# Altium schematic symbol library WCAP-ATG8_50V.SchLib: 7 symbols
Pins are listed as number, name and electrical type; pins without a type are passive.

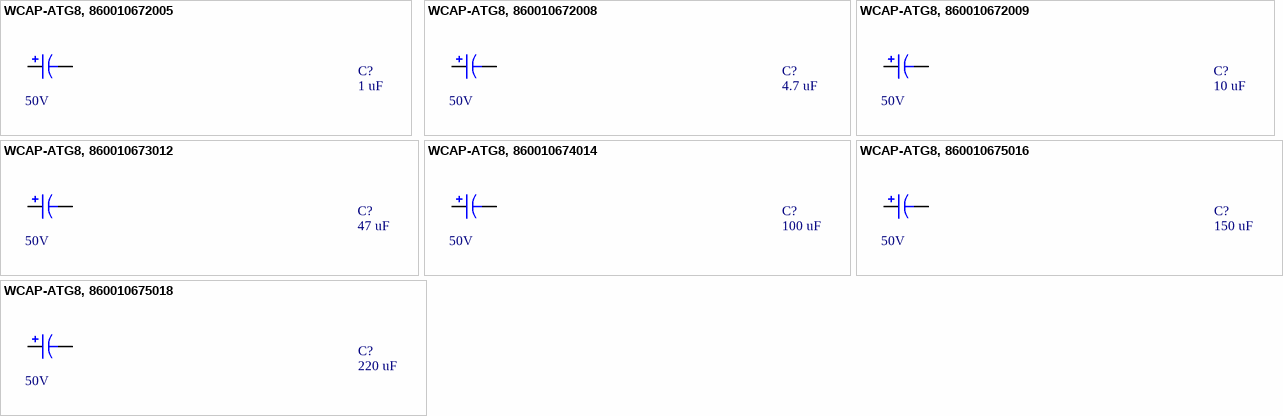
[diagram p0: symbols WCAP-ATG8, 860010672005 to WCAP-ATG8, 860010675018]

## WCAP-ATG8, 860010672005
designator C?, comment 1 uF  RatedVoltage: 50V
CAP Alu 1 UF 20% 50 V; Manufacturer: Wurth Elektronik; Manufacturer Part Number: 860010672005; PublishedDate: July 2016; ComponentLink1Description: Manufacturer; ComponentLink1URL: http://www.we-online.de; ComponentLink2Description: Datasheet; ComponentLink2URL: http://katalog.we-online.de/pbs/datasheet/860010672005.pdf; Value: 1 uF; Size: 5mmx11mm
footprint WCAP-ATG8_5x11x2x0.5
pins: 1, 2

## WCAP-ATG8, 860010672008
designator C?, comment 4.7 uF  RatedVoltage: 50V
CAP Alu 4.7 UF 20% 50 V; Manufacturer: Wurth Elektronik; Manufacturer Part Number: 860010672008; PublishedDate: July 2016; ComponentLink1Description: Manufacturer; ComponentLink1URL: http://www.we-online.de; ComponentLink2Description: Datasheet; ComponentLink2URL: http://katalog.we-online.de/pbs/datasheet/860010672008.pdf; Value: 4.7 uF; Size: 5mmx11mm
footprint WCAP-ATG8_5x11x2x0.5
pins: 1, 2

## WCAP-ATG8, 860010672009
designator C?, comment 10 uF  RatedVoltage: 50V
CAP Alu 10 UF 20% 50 V; Manufacturer: Wurth Elektronik; Manufacturer Part Number: 860010672009; PublishedDate: July 2016; ComponentLink1Description: Manufacturer; ComponentLink1URL: http://www.we-online.de; ComponentLink2Description: Datasheet; ComponentLink2URL: http://katalog.we-online.de/pbs/datasheet/860010672009.pdf; Value: 10 uF; Size: 5mmx11mm
footprint WCAP-ATG8_5x11x2x0.5
pins: 1, 2

## WCAP-ATG8, 860010673012
designator C?, comment 47 uF  RatedVoltage: 50V
CAP Alu 47 UF 20% 50 V; Manufacturer: Wurth Elektronik; Manufacturer Part Number: 860010673012; PublishedDate: July 2016; ComponentLink1Description: Manufacturer; ComponentLink1URL: http://www.we-online.de; ComponentLink2Description: Datasheet; ComponentLink2URL: http://katalog.we-online.de/pbs/datasheet/860010673012.pdf; Value: 47 uF; Size: 6.3mmx11mm
footprint WCAP-ATG8_6.3x11x2.5x0.5
pins: 1, 2

## WCAP-ATG8, 860010674014
designator C?, comment 100 uF  RatedVoltage: 50V
CAP Alu 100 UF 20% 50 V; Manufacturer: Wurth Elektronik; Manufacturer Part Number: 860010674014; PublishedDate: July 2016; ComponentLink1Description: Manufacturer; ComponentLink1URL: http://www.we-online.de; ComponentLink2Description: Datasheet; ComponentLink2URL: http://katalog.we-online.de/pbs/datasheet/860010674014.pdf; Value: 100 uF; Size: 8mmx11.5mm
footprint WCAP-ATG8_8x11.5x3.5x0.5
pins: 1, 2

## WCAP-ATG8, 860010675016
designator C?, comment 150 uF  RatedVoltage: 50V
CAP Alu 150 UF 20% 50 V; Manufacturer: Wurth Elektronik; Manufacturer Part Number: 860010675016; PublishedDate: July 2016; ComponentLink1Description: Manufacturer; ComponentLink1URL: http://www.we-online.de; ComponentLink2Description: Datasheet; ComponentLink2URL: http://katalog.we-online.de/pbs/datasheet/860010675016.pdf; Value: 150 uF; Size: 10mmx12.5mm
footprint WCAP-ATG8_10x12.5x5x0.6
pins: 1, 2

## WCAP-ATG8, 860010675018
designator C?, comment 220 uF  RatedVoltage: 50V
CAP Alu 220 UF 20% 50 V; Manufacturer: Wurth Elektronik; Manufacturer Part Number: 860010675018; PublishedDate: July 2016; ComponentLink1Description: Manufacturer; ComponentLink1URL: http://www.we-online.de; ComponentLink2Description: Datasheet; ComponentLink2URL: http://katalog.we-online.de/pbs/datasheet/860010675018.pdf; Value: 220 uF; Size: 10mmx12.5mm
footprint WCAP-ATG8_10x12.5x5x0.6
pins: 1, 2